# EAGLE library part IOTAWATT_PARTS_PCF8523_RTC (library IotaWatt3.2)
PCF8523-RTC SOIC-8
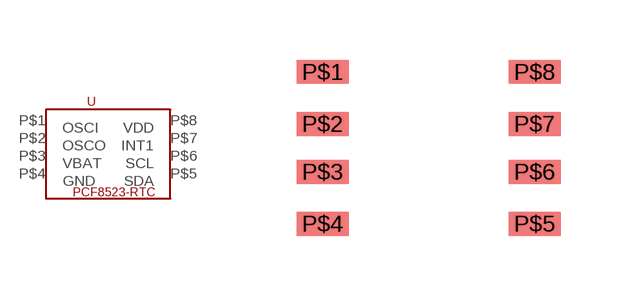
[diagram p3: symbol with the pads of IOTAWATT_PARTS_SOIC_8; footprint IOTAWATT_PARTS_SOIC_8]

Designator prefix -

## IOTAWATT_PARTS_PCF8523_RTC  [IOTAWATT_PARTS_SOIC_8]
P$1  OSCI
P$2  OSCO
P$3  VBAT
P$4  GND
P$5  SDA
P$6  SCL
P$7  INT1
P$8  VDD

## Footprint IOTAWATT_PARTS_SOIC_8 (pad centres in mm)
SOIC_8 for PCF8523 RTC
smd 1.3 x 0.6: P$1 -2.6,1.9; P$2 -2.6,0.6; P$3 -2.6,-0.6; P$4 -2.6,-1.9; P$5 2.7,-1.9; P$6 2.7,-0.6; P$7 2.7,0.6; P$8 2.7,1.9